# Altium schematic symbol library MCP73831T-2ATI_OT.Schlib: 1 symbol
Pins are listed as number, name and electrical type; pins without a type are passive.

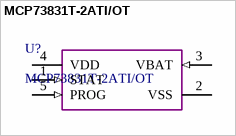
[diagram p0: symbol MCP73831T-2ATI/OT]

## MCP73831T-2ATI/OT
designator U?
pins: 1 STAT (in), 2 VSS, 3 VBAT (in), 4 VDD (power), 5 PROG (in)